# EAGLE library part EE2-XTNU (library Public)
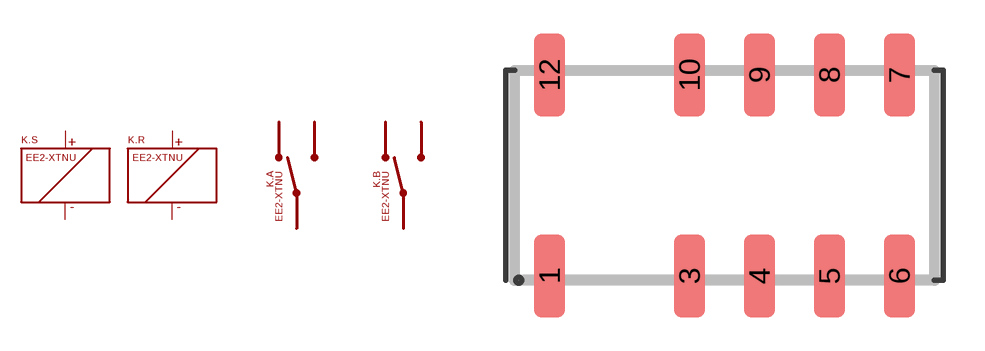
[diagram p91: symbol with the pads of EE2-XNU_KEMET_DOUBLECOIL; footprint EE2-XNU_KEMET_DOUBLECOIL]

Designator prefix K; gates .S=RELAIS_COIL .R=RELAIS_COIL .A=SWITCH_SPDT .B=SWITCH_SPDT

## EE2-XTNU (I_MAX: 2A; V_MAX: 220VDC, 250VAC)  [EE2-XNU_KEMET_DOUBLECOIL]
1  .S:+
3  .A:NC
4  .A:SW
5  .A:NO
6  .R:+
7  .R:-
8  .B:NO
9  .B:SW
10  .B:NC
12  .S:-

## Footprint EE2-XNU_KEMET_DOUBLECOIL (pad centres in mm)
smd 1.11 x 3: 1 -6.35,-3.645; 3 -1.27,-3.645; 4 1.27,-3.645; 5 3.81,-3.645; 6 6.35,-3.645; 7 6.35,3.645; 8 3.81,3.645; 9 1.27,3.645; 10 -1.27,3.645; 12 -6.35,3.645